# Altium schematic symbol library Custom1.SchLib: 476 symbols (part 3 of 16)
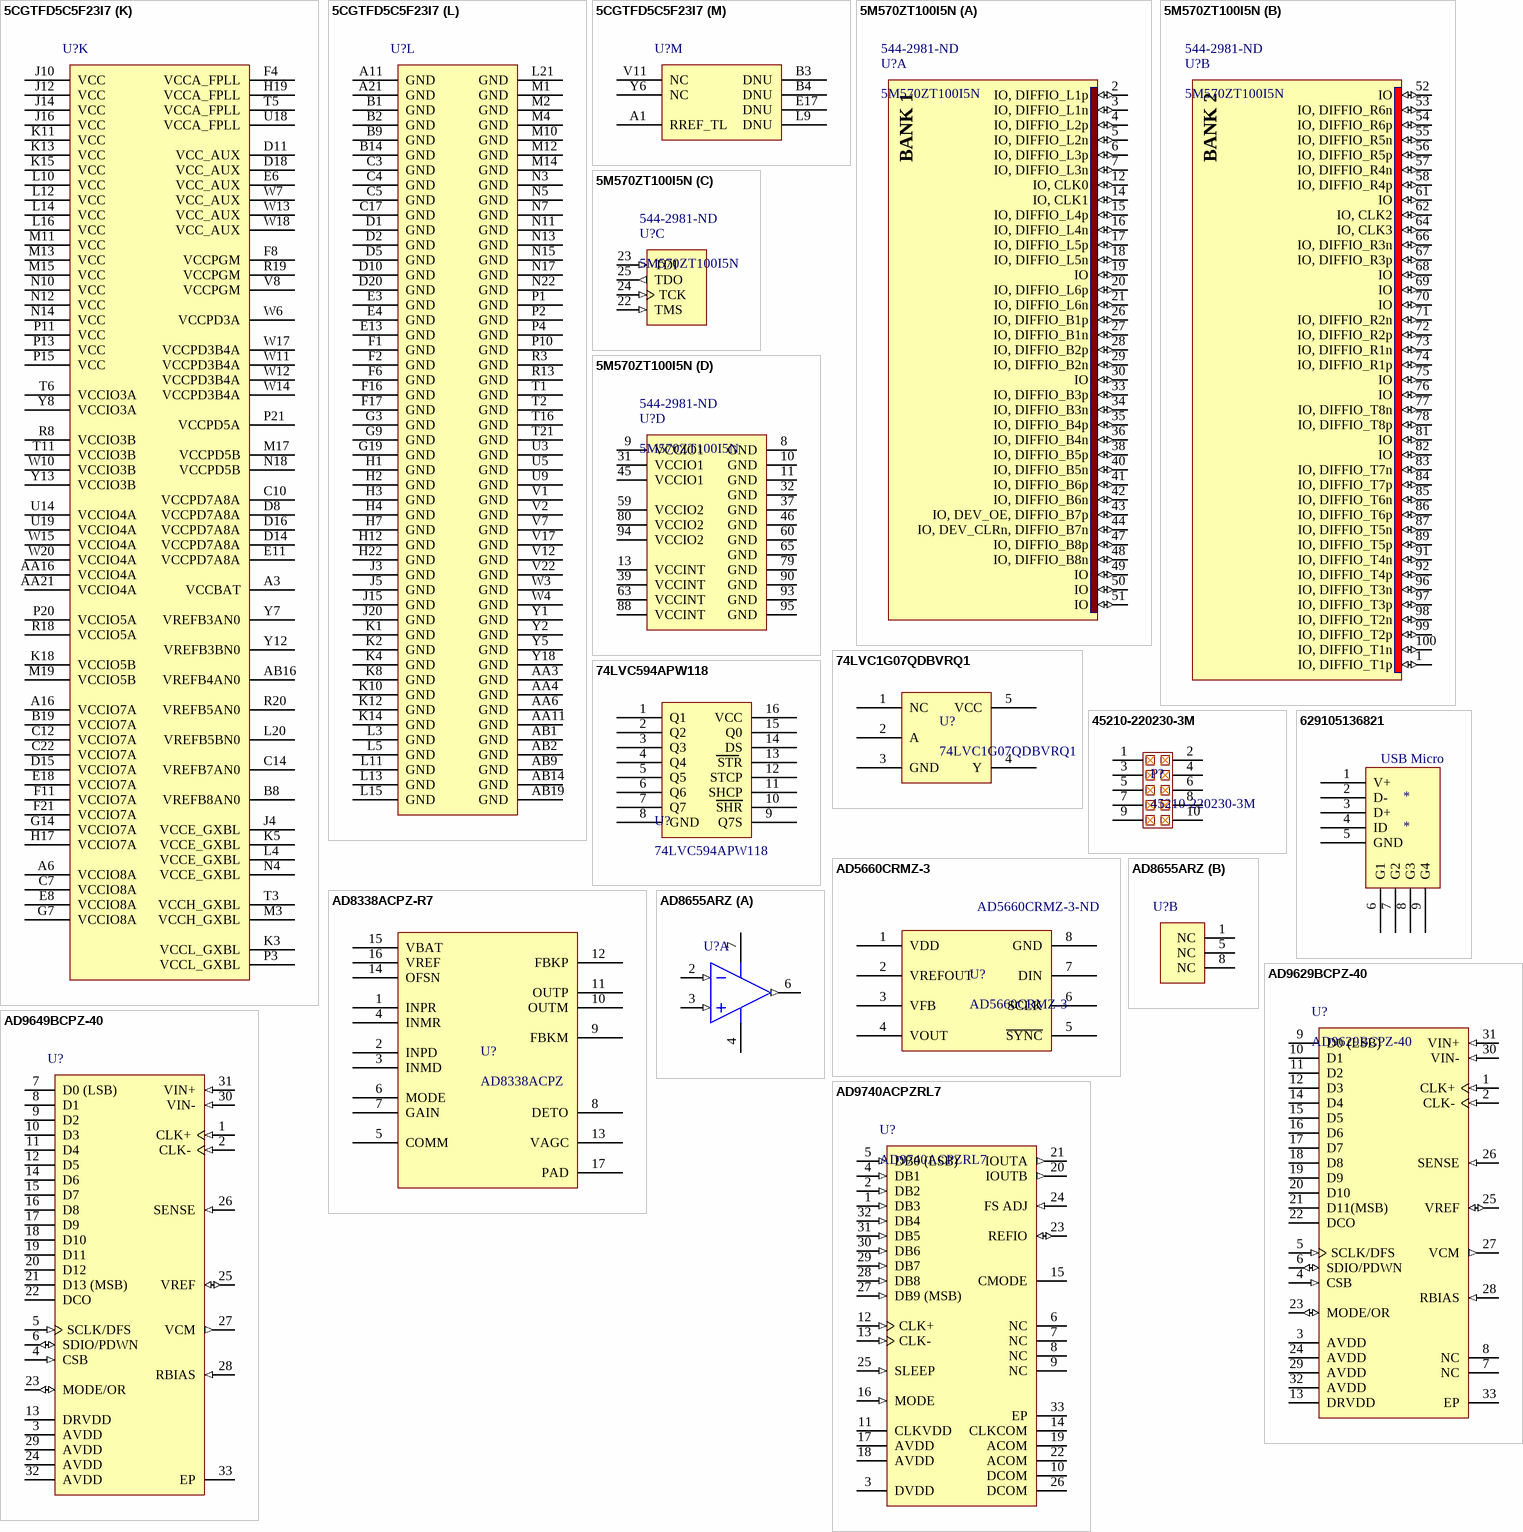
[diagram p27: symbols 5CGTFD5C5F23I7 to AD9740ACPZRL7]

## 45210-220230-3M
designator P?
shrouded header 5x2; Manufacturer: 3M; Number of Contacts: 10; Current Rating: 1A; Voltage Rating: 125V; Connector Type: Male Pin; Pitch: 1.27mm; Row Spacing: 0.05inch; Supplier 1: Digi-Key; Manufacturer Part Number: 45210-220230; Stock 1: 655; Pricing 1: 1=8.26000, 10=7.91400, 100=6.53750 (USD); RoHS: Yes; Mount: Surface Mount; Contact Plating: Gold; Contact Material: Copper Alloy; Housing Material: Liquid Crystal Polymer; Min Operating Temperature: -55°C; Max Operating Temperature: 105°C; Number of Rows: 2; Termination: Solder; Packaging: Tape and Reel; Contact Gender: Male; Package Quantity: 250; Fastening Type: Latch; Number of Positions: 10; Flammability Rating: UL94 V-0; Supplier Part Number 1: 3M15574CT-ND
footprint 45210-220230 (Shrouded header, 5x2, 452 series, through hole)
pins: 1, 2, 3, 4, 5, 6, 7, 8, 9, 10

## 629105136821
designator *  Style: USB Micro
CONN RCPT USB MICRO B R/A SMT; Manufacturer: Wurth Electronics; Manufacturer Part Number: 629105136821; Plating: Nickel; Current Rating: 1.8A; Gender: Receptacle; Voltage Rating: 30V; Number of Contacts: 5; Insulation Resistance: 1GR; Number of Ports: 1; USB Standard: USB 2.0; Supplier 1: Digi-Key; RoHS: Yes; Stock 1: 10371; Pricing 1: 1 = 1.21000, 10 = 1.19200, 50 = 1.10700, 100 = 1.02100, 500 = 0.93600 (USD); Mount: Horizontal,Surface Mount; Contact Plating: Gold; Contact Material: Copper Alloy; Color: Black; Min Operating Temperature: -40°C; Max Operating Temperature: 105°C; Package Quantity: 1400; Packaging: Tape and Reel; Connector Type: USB; Number of Positions: 5; Termination: Solder; Orientation: Right Angle; Length: 5.9mm; Lead Free: Lead Free; REACH SVHC: Unknown; Flammability Rating: UL94 V-0; ComponentLink1URL: https://katalog.we-online.de/em/datasheet/629105136821.pdf; ComponentLink1Description: https://katalog.we-online.de/em/datasheet/629105136821.pdf; ComponentLink2URL: http://katalog.we-online.de/em/datasheet/629105136821.pdf; ComponentLink2Description: http://katalog.we-online.de/em/datasheet/629105136821.pdf; Supplier Part Number 1: 732-3155-1-ND
footprint USB-B Micro Wurth 629105136821
pins: 1 V+, 2 D-, 3 D+, 4 ID, 5 GND, 6 G1, 7 G2, 8 G3, 9 G4

## AD5660CRMZ-3
designator U?  Supplier Part Number 1: AD5660CRMZ-3-ND
DAC, 16 Bit; Manufacturer: Analog Devices Inc; Settling Time: 8µs; Number of Bits: 16; Data Interface: DSP, MICROWIRE™, QSPI™, Serial, SPI™; Number of Converters: 1; Voltage Supply Source: Single Supply; Number of Outputs and Type: 1 Voltage, Unipolar; 1 Voltage, Bipolar; Supplier 1: Digi-Key; Manufacturer Part Number: AD5660CRMZ-3; RoHS: RoHS Compliant; Category: Integrated Circuits (ICs); Stock 1: 196; Pricing 1: 1=9.2, 10=8.282, 25=7.546, 100=6.8099, 250=6.25772, 500=5.70556, 1000=4.96935, 2500=4.908 (USD); Packaging: Tube; Power Dissipation (Max): -; Operating Temperature: -40°C ~ 105°C; Mounting Type: Surface Mount; Package / Case: 8-TSSOP, 8-MSOP (0.118", 3.00mm Width); Supplier Device Package: 8-MSOP; Sampling Rate (Per Second): -; ComponentLink1URL: http://www.analog.com/static/imported-files/data_sheets/AD5620_5640_5660.pdf; ComponentLink1Description: http://www.analog.com/static/imported-files/data_sheets/AD5620_5640_5660.pdf
footprint rm-8 (Shrink Small Outline, MSOP; 8 Leads; Body Width 3 mm; Pitch 0.65 mm)
footprint ru-8 (Shrink Small Outline; 8 Leads; Body Width 4.4 mm; Pitch 0.65 mm)
pins: 1 VDD, 2 VREFOUT, 3 VFB, 4 VOUT, 5 ~{SYNC}, 6 SCLK, 7 DIN, 8 GND

## AD8338ACPZ-R7
designator U?, comment AD8338ACPZ
IC OPAMP VGA 18MHZ 16LFCSP; Manufacturer: Analog Devices Inc; Manufacturer Part Number: AD8338ACPZ-R7; Amplifier Type: Variable Gain; Number of Circuits: 1; Slew Rate: 50 V/µs; Voltage - Supply, Single/Dual (±): 3 V ~ 5 V; Supplier 1: Digi-Key; RoHS: RoHS Compliant; Category: Integrated Circuits (ICs); Stock 1: 2006; Pricing 1: 1=11.79, 10=10.601, 25=9.6416, 100=8.7277, 250=7.99664, 500=7.3112 (USD); Packaging: Cut Tape (CT); Output Type: -; Gain Bandwidth Product: -; -3db Bandwidth: 18MHz; Current - Input Bias: -; Voltage - Input Offset: -; Current - Supply: -; Current - Output / Channel: -; Operating Temperature: -40°C ~ 85°C; Mounting Type: Surface Mount; Package / Case: 16-WFQFN Exposed Pad, CSP; Supplier Device Package: 16-LFCSP-WQ (3x3); ComponentLink1URL: http://www.analog.com/static/imported-files/data_sheets/AD8338.pdf; ComponentLink1Description: http://www.analog.com/static/imported-files/data_sheets/AD8338.pdf; Supplier Part Number 1: AD8338ACPZ-R7CT-ND
footprint ADI-CP-16-2_L_Mod (QFN, 16-Leads, Body 3x3mm, Pitch 0.5mm, Thermal Pad 1.3x1.3mm, IPC High Density)
pins: 1 INPR, 2 INPD, 3 INMD, 4 INMR, 5 COMM, 6 MODE, 7 GAIN, 8 DETO, 9 FBKM, 10 OUTM, 11 OUTP, 12 FBKP, 13 VAGC, 14 OFSN, 15 VBAT, 16 VREF, 17 PAD

## AD8655ARZ
designator U?
Single Channel Low Offset Voltage Operational Amplifier, 28 MHz BW, 11 V/us SR, Industrial, 8-pin SOIC (R-8), Tube; Generic Part Number: AD8655; Manufacturer: Analog Devices; PartNumber: AD8655ARZ; Amplifiers Per Package: 1; Input Bias Current: 1pA; Input Offset Voltage: 50uV; Iq/Amp: 4.5mA; Slew Rate: 11V/us; Small Signal Bandwidth: 28MHz; V Span Max: 5.5V; V Span Min: 2.7V; DatasheetVersion: Rev. B; PackageVersion: 060506-A; PackageReference: R-8; PackageDescription: 8-Pin Standard Small Outline Package, Body 3.9 x 4.9 mm, Pitch 1.27 mm; Supplier 1: Digi-Key; Supplier Part Number 1: AD8655ARZ-ND; Supplier 2: Newark; Supplier Part Number 2: 59K7052; Mounting Technology: Surface Mount; Code_JEDEC: MS-012-AA; ComponentLink1Description: Manufacturer URL; ComponentLink1URL: http://www.analog.com/en/index.html; ComponentLink2Description: Datasheet; ComponentLink2URL: http://www.analog.com/static/imported-files/data_sheets/AD8655_8656.pdf; ComponentLink3Description: Package Specification; ComponentLink3URL: http://www.analog.com/static/imported-files/packages/PKG_PDF/SOIC_Narrow%20(R)/R_8.pdf; ComponentLink4Description: URL Link1; ComponentLink4URL: Reference Circuit:http://www.analog.com/en/all-operational-amplifiers-op-amps/operational-amplifiers-op-amps/ad8655/products/product.html#product-recommendations
footprint ADI-R-8_N (SOIC, 8-Leads, Body 4.9x3.9mm, Pitch 1.27mm, IPC Medium Density)
footprint ADI-R-8_L (SOIC, 8-Leads, Body 4.9x3.9mm, Pitch 1.27mm, IPC High Density)
footprint ADI-R-8_M (SOIC, 8-Leads, Body 4.9x3.9mm, Pitch 1.27mm, IPC Low Density)
part A pins: 2 -IN (in), 3 +IN (in), 4 -V (power), 6 OUT (out), 7 +V (power)
part B pins: 1 NC, 5 NC, 8 NC

## AD9629BCPZ-40
designator U?
Single 12-Bit Analog-to-Digital Converter with Parallel Interface, 1.8 V 40MSPS, -40 to +85 degC, CP-32-4, Pb-Free, Tray; Generic Part Number: AD9629-40; Manufacturer: Analog Devices; Throughput Rate (SPS): 40M; Resolution (Bits): 12; Interface: Par; Channels: 1; ComponentLink4Description: Product URL; PartNumber: AD9629BCPZ-40; ComponentLink1Description: Manufacturer URL; ComponentLink2Description: Datasheet; DatasheetVersion: Rev.0; ComponentLink3URL: http://www.analog.com/static/imported-files/packages/3416438741201015623CP_32_4.pdf; ComponentLink1URL: http://www.analog.com/en/index.html; Code_JEDEC: MO-220-VHHD-2; Packing: Tray; ComponentLink4URL: http://www.analog.com/en/analog-to-digital-converters/ad-converters/ad9629/products/product.html; ComponentLink2URL: http://www.analog.com/static/imported-files/data_sheets/AD9629.pdf; PackageReference: CP-32-4; ComponentLink3Description: Package Specification; PackageVersion: 2005; RoHS: Y; Mounting Technology: Surface Mount; PackageDescription: 32-Lead Lead Frame Chip Scale Package [LFCSP_VQ] 5 x 5 mm Body, Very Thin Quad
footprint CP-32-4_M
footprint CP-32-4_N
footprint CP-32-4_L
pins: 1 CLK+ (in) "Differential Encode Clock. PECL, LVDS, or 1.8 V CMOS inputs", 2 CLK- (in) "Differential Encode Clock. PECL, LVDS, or 1.8 V CMOS inputs", 3 AVDD (power) "1.8 V Supply Pin for ADC Core Domain.", 4 CSB (in) "SPI Chip Select. Active low enable. 30 kohm internal pull-up", 5 SCLK/DFS (in) "SPI Clock Input in SPI Mode (SCLK). 30 kohm internal pull-down.  Data Format Select in Non-SPI Mode (DFS). Static control of data output format. 30 kohm internal pull-down DFS high = twos complement output; DFS low = offset (See Datasheet)", 6 SDIO/PDWN (io) "SPI Data Input/Output (SDIO). Bidirectional SPI data I/O in SPI mode. 30 kohm internal pull-down Non-SPI Mode Power-Down (PDWN). Static control of power-down with 30 kohm internal pull-down. See Table 14 for details.", 7 NC "Do Not Connect.", 8 NC "Do Not Connect.", 9 D0 (LSB) (hiz) "ADC Digital Outputs.", 10 D1 (hiz) "ADC Digital Outputs.", 11 D2 (hiz) "ADC Digital Outputs.", 12 D3 (hiz) "ADC Digital Outputs.", 13 DRVDD (power) "1.8 V to 3.3 V Supply Pin for Output Driver Domain", 14 D4 (hiz) "ADC Digital Outputs.", 15 D5 (hiz) "ADC Digital Outputs.", 16 D6 (hiz) "ADC Digital Outputs.", 17 D7 (hiz) "ADC Digital Outputs.", 18 D8 (hiz) "ADC Digital Outputs.", 19 D9 (hiz) "ADC Digital Outputs.", 20 D10 (hiz) "ADC Digital Outputs.", 21 D11(MSB) (hiz) "ADC Digital Outputs.", 22 DCO (hiz) "Data Clock Digital Output.", 23 MODE/OR (io) "Chip Mode Select Input or Out-of-Range (OR) Digital Output in SPI Mode.Default = out-of-range (OR) digital output (SPI Register 0x2A[0] = 1). Option  = chip mode select input (SPI Register 0x2A[0] = 0).Chip power down (SPI (See Datasheet)", 24 AVDD (power) "1.8 V Supply Pin for ADC Core Domain.", 25 VREF (io) "1.0 V Voltage Reference Input/Output. See Table 10.", 26 SENSE (in) "Reference Mode Selection. See Table 10.", 27 VCM (out) "Analog Output Voltage at Mid AVDD Supply. Sets common mode of the analog inputs", 28 RBIAS (in) "Sets Analog Current Bias. Connect to 10 kohm (1% tolerance) resistor to ground.", 29 AVDD (power) "1.8 V Supply Pin for ADC Core Domain.", 30 VIN- (in) "ADC Analog Inputs.", 31 VIN+ (in) "ADC Analog Inputs.", 32 AVDD (power) "1.8 V Supply Pin for ADC Core Domain.", 33 EP (power) "Exposed Paddle. The exposed paddle is the only ground connection. It must be soldered to the analog  ground of the customer’s PCB to ensure proper functionality and maximize heat dissipation, noise, and mechanical strength (See Datasheet)"

## AD9649BCPZ-40
designator U?
Single 14-Bit Analog-to-Digital Converter with Parallel Interface, 1.8 V 40MSPS, -40 to +85 degC, CP-32-4, Pb-Free, Tray; Manufacturer: Analog Devices Inc.; Manufacturer Part Number: AD9649BCPZ-40; Number of Bits: 14; Sampling Rate (Per Second): 40M; Number of Inputs: 1; Input Type: Differential, Single Ended; Configuration: S/H-ADC; Ratio - S/H:ADC: 1:1; Architecture: Pipelined; Reference Type: External, Internal; Voltage - Supply, Analog: 1.7 V ~ 1.9 V; Supplier 1: Digi-Key; RoHS: RoHS Compliant; Category: Integrated Circuits (ICs); Stock 1: 187; Pricing 1: 1=29.15, 10=26.883, 100=22.9562, 500=20.8418, 1000=19.63358, 2500=19.02946, 5000=18.588 (USD); Packaging: Tray; Data Interface: Parallel; Number of A/D Converters: 1; Voltage - Supply, Digital: 1.7 V ~ 1.9 V; Features: -; Operating Temperature: -40°C ~ 85°C; Package / Case: 32-VFQFN Exposed Pad, CSP; Supplier Device Package: 32-LFCSP-VQ (5x5); ComponentLink1URL: http://www.analog.com/media/en/technical-documentation/data-sheets/AD9649.pdf; ComponentLink1Description: http://www.analog.com/media/en/technical-documentation/data-sheets/AD9649.pdf; Supplier Part Number 1: AD9649BCPZ-40-ND
footprint CP-32-4_L (QFN, 32-Leads, Body 5x5mm, Pitch 0.5mm, Thermal Pad 3.5x3.5mm, IPC High Density)
footprint CP-32-4_M (QFN, 32-Leads, Body 5x5mm, Pitch 0.5mm, Thermal Pad 3.5x3.5mm, IPC Low Density)
footprint CP-32-4_N (QFN, 32-Leads, Body 5x5mm, Pitch 0.5mm, Thermal Pad 3.5x3.5mm, IPC Medium Density)
pins: 1 CLK+ (in) "Differential Encode Clock for PECL, LVDS, or 1.8 V CMOS Inputs.", 2 CLK- (in) "Differential Encode Clock for PECL, LVDS, or 1.8 V CMOS Inputs.", 3 AVDD (power) "1.8 V Supply Pin for the ADC CORE Domain.", 4 CSB (in) "SPI Chip Select. Active low enable, 30 kohm internal pull-up.", 5 SCLK/DFS (in) "SPI Clock Input in SPI Mode (SCLK). 30 kohm internal pull-down. Data Format Select in Non-SPI Mode (DFS). Static control of data output format. 30 kohm internal pull-down. DFS high = twos complement output; DFS low = offset (See Datasheet)", 6 SDIO/PDWN (io) "SPI Data Input/Output (SDIO). Bidirectional SPI data I/O with 30 kohm internal pull-down. Non-SPI Mode Power-Down (PDWN). Static control of chip power-down with 30 kohm internal pull-down. See Table 14 for details.", 7 D0 (LSB) (hiz) "ADC Digital Outputs.", 8 D1 (hiz) "ADC Digital Outputs.", 9 D2 (hiz) "ADC Digital Outputs.", 10 D3 (hiz) "ADC Digital Outputs.", 11 D4 (hiz) "ADC Digital Outputs.", 12 D5 (hiz) "ADC Digital Outputs.", 13 DRVDD (power) "1.8 V to 3.3 V Supply Pin for Output Driver Domain.", 14 D6 (hiz) "ADC Digital Outputs.", 15 D7 (hiz) "ADC Digital Outputs.", 16 D8 (hiz) "ADC Digital Outputs.", 17 D9 (hiz) "ADC Digital Outputs.", 18 D10 (hiz) "ADC Digital Outputs.", 19 D11 (hiz) "ADC Digital Outputs.", 20 D12 (hiz) "ADC Digital Outputs.", 21 D13 (MSB) (hiz) "ADC Digital Outputs.", 22 DCO (hiz) "Data Clock Digital Output.", 23 MODE/OR (io) "Chip Mode Select Input in SPI Mode (MODE). Out-of-Range Digital Output in SPI Mode or in Non-SPI Mode (OR). Default = out-of-range (OR) digital output (SPI Register 0x2A, Bit 0 = 1). Option = chip mode select input (SPI (See Datasheet)", 24 AVDD (power) "1.8 V Supply Pin for the ADC CORE Domain.", 25 VREF (io) "1.0 V Voltage Reference Input/Output. See Table 10.", 26 SENSE (in) "Reference Mode Selection. See Table 10.", 27 VCM (out) "Analog Output Voltage at Mid AVDD Supply. Sets common mode of the analog inputs.", 28 RBIAS (in) "Set Analog Current Bias. Connect to 10 kohm (1% tolerance) resistor to ground.", 29 AVDD (power) "1.8 V Supply Pin for the ADC CORE Domain.", 30 VIN- (in) "ADC Analog Inputs.", 31 VIN+ (in) "ADC Analog Inputs.", 32 AVDD (power) "1.8 V Supply Pin for the ADC CORE Domain.", 33 EP (power) "Exposed Paddle. The exposed paddle is the only ground connection. It must be soldered to the analog ground of the customer’s PCB to ensure proper functionality and maximize the heat dissipation, noise, and mechanical (See Datasheet)"

## AD9740ACPZRL7
designator U?
Single 10-Bit TxDAC, 210 Msps, -40 to +85 degC, CP-32-2, Pb-Free, Reel; ADI Part Number: AD9740; Single Supply: Yes; Op Pwr Diss: 145mW; Settling Time: 11ns; Max V+: 3.6V; Resolution (Bits): 10; # DAC Outputs: 1; ComponentLink4Description: URL Link1; ComponentLink1Description: Manufacturer URL; ComponentLink2Description: Datasheet; DatasheetVersion: Rev.B; ComponentLink3URL: http://www.analog.com/static/imported-files/packages/414143737956480539664569CP_32_2.pdf; ComponentLink1URL: http://www.analog.com/en/index.html; Code_JEDEC: MO-220-VHHD-2; Packing: Reel; ComponentLink4URL: Product URL:http://www.analog.com/en/digital-to-analog-converters/da-converters/ad9740/products/product.html; ComponentLink2URL: http://www.analog.com/static/imported-files/data_sheets/AD9740.pdf; PackageReference: CP-32-2; ComponentLink3Description: Package Specification; PackageVersion: Jan-2005; RoHS: Y; Mounting Technology: Surface Mount; PackageDescription: 32-Lead Lead Frame Chip Scale Package [LFCSP_VQ] 5 x 5 mm Body, Very Thin Quad; PartNumber: AD9740ACPZRL7
footprint CP-32-2_L
footprint CP-32-2_M
footprint CP-32-2_N
pins: 1 DB3 (in) "Data Bit 3", 2 DB2 (in) "Data Bit 2", 3 DVDD (power) "Digital Supply Voltage (3.3 V).", 4 DB1 (in) "Data Bit 1", 5 DB0 (LSB) (in) "Least Significant Data Bit (LSB).", 6 NC "No Internal Connection.", 7 NC "No Internal Connection.", 8 NC "No Internal Connection.", 9 NC "No Internal Connection.", 10 DCOM (power) "Digital Common.", 11 CLKVDD (power) "Clock Supply Voltage (3.3 V).", 12 CLK+ (in) "Differential Clock Input.", 13 CLK- (in) "Differential Clock Input.", 14 CLKCOM (power) "Clock Common.", 15 CMODE "Clock Mode Selection. Connect to CLKCOM for single-ended clock receiver (drive CLK+and float CLK-). Connect to CLKVDD for differential receiver. Float for PECL receiver (terminations on-chip).", 16 MODE (in) "Selects Input Data Format. Connect to DCOM for straight binary, DVDD for twos complement.", 17 AVDD (power) "Analog Supply Voltage (3.3 V).", 18 AVDD (power) "Analog Supply Voltage (3.3 V).", 19 ACOM (power) "Analog Common.", 20 IOUTB (out) "Complementary DAC Current Output. Full-scale current when all data bits are 0s.", 21 IOUTA (out) "DAC Current Output. Full-scale current when all data bits are 1s.", 22 ACOM (power) "Analog Common.", 23 REFIO (io) "Reference Input/Output. Serves as reference input when using external reference.Serves as 1.2 V reference output when using internal reference. Requires 0.1 uF capacitor to ACOM when using internal reference.", 24 FS ADJ (in) "Full-Scale Current Output Adjust.", 25 SLEEP (in) "Power-Down Control Input. Active high. Contains active pull-down circuit; it can be left unterminated if not used.", 26 DCOM (power) "Digital Common.", 27 DB9 (MSB) (in) "Most Significant Data Bit (MSB).", 28 DB8 (in) "Data Bit 8", 29 DB7 (in) "Data Bit 7", 30 DB6 (in) "Data Bit 6", 31 DB5 (in) "Data Bit 5", 32 DB4 (in) "Data Bit 4", 33 EP "Exposed pad."

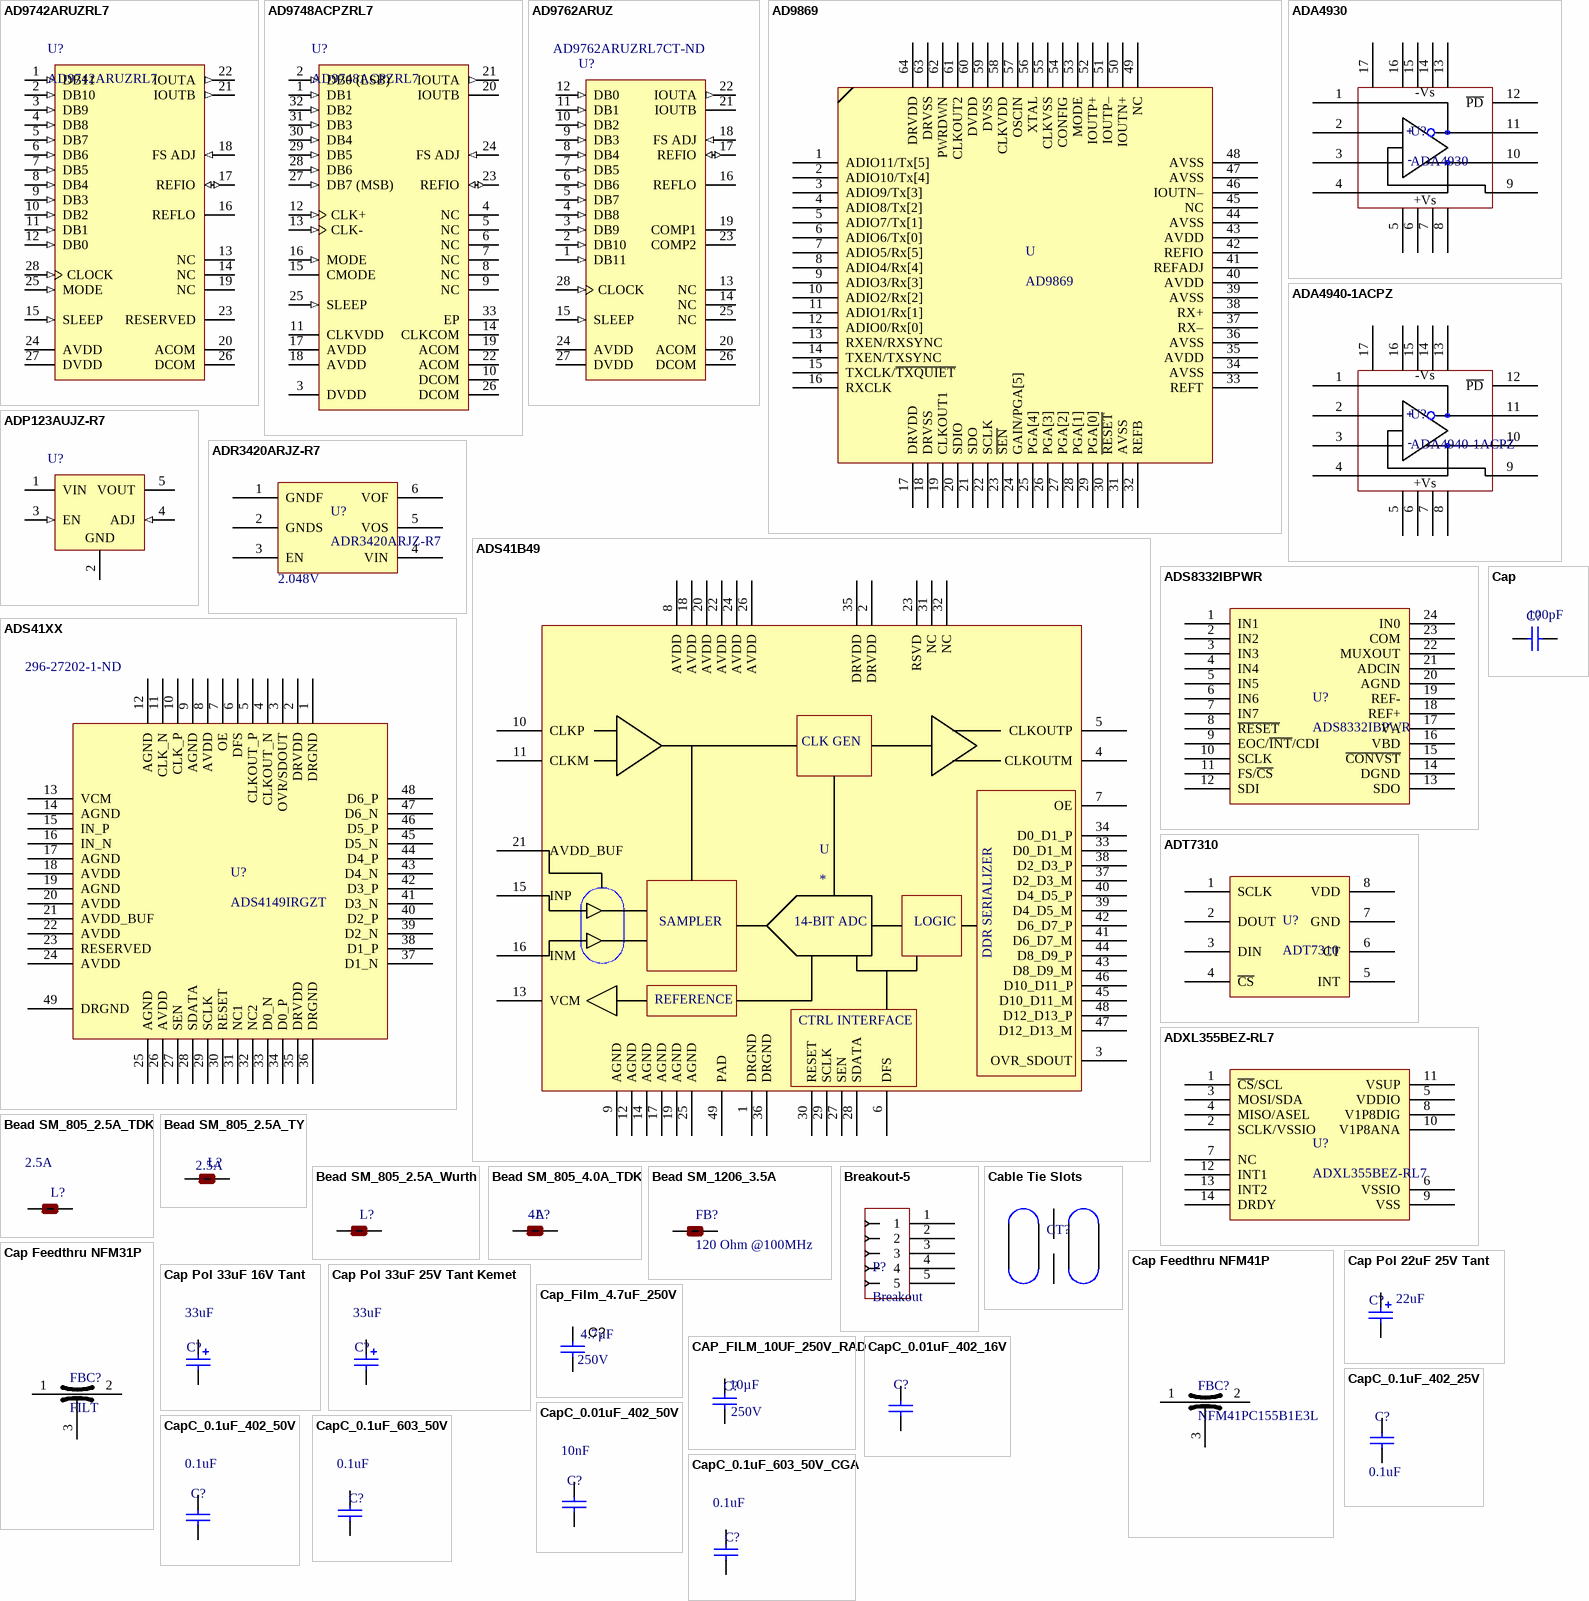
[diagram p10: symbols AD9742ARUZRL7 to CapC_0.1uF_603_50V_CGA]

## AD9742ARUZRL7
designator U?
Single 12-Bit TxDAC, 210 Msps, -40 to +85 degC, RU-28, Pb-Free, Reel; Generic Part Number: AD9742; Manufacturer: Analog Devices; Single Supply: NO; Op Pwr Diss: 145mW; Settling Time: 11ns; Max V+: 3.6V; Resolution (Bits): 12; # DAC Outputs: 1; ComponentLink4Description: Product URL; PartNumber: AD9742ARUZRL7; ComponentLink1Description: Manufacturer URL; ComponentLink2Description: Datasheet; DatasheetVersion: Rev.B; ComponentLink3URL: http://www.analog.com/static/imported-files/packages/249854663RU_28.pdf; ComponentLink1URL: http://www.analog.com/en/index.html; Code_JEDEC: MO-153-AE; Packing: Reel; RevisionNote: Component URL fixed; ComponentLink4URL: http://www.analog.com/en/digital-to-analog-converters/da-converters/ad9742/products/product.html; ComponentLink2URL: http://www.analog.com/static/imported-files/data_sheets/AD9742.pdf; ComponentLink3Description: Package Specification; PackageVersion: 2005; RoHS: Y; Mounting Technology: Surface Mount; PackageReference: RU-28; PackageDescription: 28-Lead Thin Shrink Small Outline Package [TSSOP]
footprint RU-28_M
footprint RU-28_L
footprint RU-28_N
pins: 1 DB11 (in) "Most Significant Data Bit (MSB).", 2 DB10 (in) "Data Bit 10", 3 DB9 (in) "Data Bit 9", 4 DB8 (in) "Data Bit 8", 5 DB7 (in) "Data Bit 7", 6 DB6 (in) "Data Bit 6", 7 DB5 (in) "Data Bit 5", 8 DB4 (in) "Data Bit 4", 9 DB3 (in) "Data Bit 3", 10 DB2 (in) "Data Bit 2", 11 DB1 (in) "Data Bit 1", 12 DB0 (in) "Least Significant Data Bit (LSB).", 13 NC "No Internal Connection.", 14 NC "No Internal Connection.", 15 SLEEP (in) "Power-Down Control Input. Active high. Contains active pull-down circuit; it may be left unterminated if not used.", 16 REFLO "Reference Ground when Internal 1.2 V Reference Used. Connect to AVDD to disable internal reference.", 17 REFIO (io) "Reference Input/Output. Serves as reference input when internal reference disabled (i.e., tie REFLO to AVDD). Serves as 1.2 V reference output when internal reference activated (i.e., tie REFLO to ACOM). Requires 0.1 uF (See Datasheet)", 18 FS ADJ (in) "Full-Scale Current Output Adjust.", 19 NC "No Internal Connection.", 20 ACOM (power) "Analog Common.", 21 IOUTB (out) "Complementary DAC Current Output. Full-scale current when all data bits are 0s.", 22 IOUTA (out) "DAC Current Output. Full-scale current when all data bits are 1s.", 23 RESERVED "Reserved. Do not connect to common or supply.", 24 AVDD (power) "Analog Supply Voltage (3.3 V).", 25 MODE (in) "Selects Input Data Format. Connect to DCOM for straight binary, DVDD for twos complement.", 26 DCOM (power) "Digital Common.", 27 DVDD (power) "Digital Supply Voltage (3.3 V).", 28 CLOCK (in) "Clock Input. Data latched on positive edge of clock."

## AD9748ACPZRL7
designator U?
Single 8-Bit TxDAC, 210 Msps, -40 to +85 degC, CP-32-2, Pb-Free, Reel; Manufacturer: Analog Devices; Generic Part Number: AD9748; Single Supply: Yes; Op Pwr Diss: 145mW; Settling Time: 11ns; Max V+: 3.6V; Resolution (Bits): 8; # DAC Outputs: 1; ComponentLink4Description: Product URL; PartNumber: AD9748ACPZRL7; PackageVersion: Jan-2005; ComponentLink1Description: Manufacturer URL; ComponentLink2Description: Datasheet; DatasheetVersion: Rev.A; ComponentLink3URL: http://www.analog.com/static/imported-files/packages/414143737956480539664569CP_32_2.pdf; ComponentLink1URL: http://www.analog.com/en/index.html; Code_JEDEC: MO-220-VHHD-2; Packing: Reel; RevisionNote: Component URL fixed; ComponentLink4URL: http://www.analog.com/en/digital-to-analog-converters/da-converters/ad9748/products/product.html; ComponentLink2URL: http://www.analog.com/static/imported-files/data_sheets/AD9748.pdf; ComponentLink3Description: Package Specification; RoHS: Y; Mounting Technology: Surface Mount; PackageReference: CP-32-2; PackageDescription: 32-Lead Lead Frame Chip Scale Package [LFCSP_VQ] 5 x 5 mm Body, Very Thin Quad
footprint CP-32-2_L
footprint CP-32-2_M
footprint CP-32-2_N
pins: 1 DB1 (in) "Data Bit 1.", 2 DB0 (LSB) (in) "Least Significant Data Bit (LSB).", 3 DVDD (power) "Digital Supply Voltage (3.3 V).", 4 NC "No Internal Connection.", 5 NC "No Internal Connection.", 6 NC "No Internal Connection.", 7 NC "No Internal Connection.", 8 NC "No Internal Connection.", 9 NC "No Internal Connection.", 10 DCOM (power) "Digital Common.", 11 CLKVDD (power) "Clock Supply Voltage (3.3 V).", 12 CLK+ (in) "Differential Clock Input.", 13 CLK- (in) "Differential Clock Input.", 14 CLKCOM (power) "Clock Common.", 15 CMODE "Clock Mode Selection. Connect to CLKCOM for single-ended clock receiver (drive CLK+ and float CLK-). Connect to CLKVDD for differential receiver. Float for PECL receiver (terminations on-chip).", 16 MODE (in) "Selects Input Data Format. Connect to DCOM for straight binary, DVDD for twos complement.", 17 AVDD (power) "Analog Supply Voltage (3.3 V).", 18 AVDD (power) "Analog Supply Voltage (3.3 V).", 19 ACOM (power) "Analog Common.", 20 IOUTB "Complementary DAC Current Output. Full-scale current when all data bits are 0s.", 21 IOUTA (out) "DAC Current Output. Full-scale current when all data bits are 1s.", 22 ACOM (power) "Analog Common.", 23 REFIO (io) "Reference Input/Output. Requires 0.1 uF capacitor to ACOM.", 24 FS ADJ (in) "Full-Scale Current Output Adjust.", 25 SLEEP (in) "Power-Down Control Input. Active high. Contains active pull-down circuit; it can be left unterminated if not used.", 26 DCOM (power) "Digital Common.", 27 DB7 (MSB) (in) "Most Significant Data Bit (MSB).", 28 DB6 (in) "Data Bit 2.", 29 DB5 (in) "Data Bit 3.", 30 DB4 (in) "Data Bit 4.", 31 DB3 (in) "Data Bit 5.", 32 DB2 (in) "Data Bit 6.", 33 EP "Exposed Pad."

## AD9762ARUZ
designator U?  Supplier Part Number 1: AD9762ARUZRL7CT-ND
Single 12-Bit TxDAC, 125 Msps, -40 to +85 degC, RU-28, Pb-Free, Tube; ADI Part Number: AD9762; Manufacturer: Analog Devices; Manufacturer Part Number: AD9762ARUZRL7; # DAC Outputs: 1; Max V+: 5.5V; Op Pwr Diss: 160mW; Resolution (Bits): 12; Settling Time: 35ns; Single Supply: Yes; Data Interface: Parallel; Voltage Supply Source: Analog and Digital; Number of Outputs and Type: 2 Current; Sampling Rate (Per Second): 125M; DatasheetVersion: Rev.B; PackageVersion: 2005; PackageReference: RU-28; PackageDescription: 28-Lead Thin Shrink Small Outline Package [TSSOP]; Packing: Tube; RoHS: Y; Mounting Technology: Surface Mount; Code_JEDEC: MO-153-AE; ComponentLink1Description: Manufacturer URL; ComponentLink1URL: http://www.analog.com/en/index.html; ComponentLink2Description: Datasheet; ComponentLink2URL: http://www.analog.com/static/imported-files/data_sheets/AD9762.pdf; ComponentLink3Description: Package Specification; ComponentLink3URL: http://www.analog.com/static/imported-files/packages/249854663RU_28.pdf; ComponentLink4Description: URL Link1; ComponentLink4URL: Product URL:http://www.analog.com/en/digital-to-analog-converters/da-converters/ad9762/products/product.html; Supplier 1: Digi-Key; Category: Integrated Circuits (ICs); Stock 1: 0; Pricing 1: 1=0 (USD); Packaging: Cut Tape (CT); Number of Bits: 12; Number of Converters: 1; Operating Temperature: *; Mounting Type: Surface Mount; Package / Case: 28-TSSOP (0.173", 4.40mm Width); Supplier Device Package: 28-TSSOP
footprint RU-28_L (TSOP, 28-Leads, Body 9.7x4.4mm, Pitch 0.65mm, IPC High Density)
footprint RU-28_M (TSOP, 28-Leads, Body 9.7x4.4mm, Pitch 0.65mm, IPC Low Density)
footprint RU-28_N (TSOP, 28-Leads, Body 9.7x4.4mm, Pitch 0.65mm, IPC Medium Density)
pins: 1 DB11 (in) "Most Significant Data Bit (MSB).", 2 DB10 (in) "Data Bit 10", 3 DB9 (in) "Data Bit 9", 4 DB8 (in) "Data Bit 8", 5 DB7 (in) "Data Bit 7", 6 DB6 (in) "Data Bit 6", 7 DB5 (in) "Data Bit 5", 8 DB4 (in) "Data Bit 4", 9 DB3 (in) "Data Bit 3", 10 DB2 (in) "Data Bit 2", 11 DB1 (in) "Data Bit 1", 12 DB0 (in) "Least Significant Data Bit (LSB).", 13 NC "No Internal Connection.", 14 NC "No Internal Connection.", 15 SLEEP (in) "Power-down Control Input. Active High. Contains active pull-down circuit, thus may be left unterminated if not used.", 16 REFLO "Reference Ground when Internal 1.2 V Reference Used. Connect to AVDD to disable internal reference.", 17 REFIO (io) "Reference Input/Output. Serves as reference input when internal reference disabled (i.e., Tie REFLO to AVDD). Serves as 1.2 V reference output when internal reference activated (i.e., Tie REFLO to ACOM). Requires 0.1 uF (See Datasheet)", 18 FS ADJ (in) "Full-Scale Current Output Adjust.", 19 COMP1 "Bandwidth/Noise Reduction Node. Add 0.1 uF to AVDD for optimum performance.", 20 ACOM (power) "Analog Common.", 21 IOUTB "Complementary DAC Current Output. Full-scale current when all data bits are 0s.", 22 IOUTA (out) "DAC Current Output. Full-scale current when all data bits are 1s.", 23 COMP2 "Internal Bias Node for Switch Driver Circuitry. Decouple to ACOM with 0.1 uF capacitor.", 24 AVDD (power) "Analog Supply Voltage (+2.7 V to +5.5 V).", 25 NC "No Internal Connection.", 26 DCOM (power) "Digital Common.", 27 DVDD (power) "Digital Supply Voltage (+2.7 V to +5.5 V).", 28 CLOCK (in) "Clock Input. Data latched on positive edge of clock."

## AD9869
designator U
IC MXFE ADC 80MSPS TX/RX; Manufacturer: Analog Devices Inc; Manufacturer Part Number: AD9869BCPZ; RF Type: HPNA, VDSL; Supplier 1: Digi-Key; RoHS: RoHS Compliant; Category: RF/IF and RFID; Stock 1: 0; Pricing 1: 1=0 (USD); Packaging: Tray; Frequency: -; Features: -; Package / Case: 64-VFQFN Exposed Pad, CSP; Supplier Device Package: 64-LFCSP-VQ (9x9); ComponentLink1URL: http://www.analog.com/media/en/technical-documentation/data-sheets/AD9869.pdf; ComponentLink1Description: http://www.analog.com/media/en/technical-documentation/data-sheets/AD9869.pdf; Supplier Part Number 1: AD9869BCPZ-ND
pins: 1 ADIO11/Tx[5], 2 ADIO10/Tx[4], 3 ADIO9/Tx[3], 4 ADIO8/Tx[2], 5 ADIO7/Tx[1], 6 ADIO6/Tx[0], 7 ADIO5/Rx[5], 8 ADIO4/Rx[4], 9 ADIO3/Rx[3], 10 ADIO2/Rx[2], 11 ADIO1/Rx[1], 12 ADIO0/Rx[0], 13 RXEN/RXSYNC, 14 TXEN/TXSYNC, 15 TXCLK/~{TXQUIET}, 16 RXCLK, 17 DRVDD, 18 DRVSS, 19 CLKOUT1, 20 SDIO, 21 SDO, 22 SCLK, 23 ~{SEN}, 24 GAIN/PGA[5], 25 PGA[4], 26 PGA[3], 27 PGA[2], 28 PGA[1], 29 PGA[0], 30 ~{RESET}, 31 AVSS, 32 REFB, 33 REFT, 34 AVSS, 35 AVDD, 36 AVSS, 37 RX–, 38 RX+, 39 AVSS, 40 AVDD, 41 REFADJ, 42 REFIO, 43 AVDD, 44 AVSS, 45 NC, 46 IOUTN–, 47 AVSS, 48 AVSS, 49 NC, 50 IOUTN+, 51 IOUTP–, 52 IOUTP+, 53 MODE, 54 CONFIG, 55 CLKVSS, 56 XTAL, 57 OSCIN, 58 CLKVDD, 59 DVSS, 60 DVDD, 61 CLKOUT2, 62 PWRDWN, 63 DRVSS, 64 DRVDD

## ADA4930
designator U?
Manufacturer: Analog Devices Inc; Manufacturer Part Number: ADA4930-1YCPZ-R7; Amplifier Type: Differential; Number of Circuits: 1; Slew Rate: 3400 V/µs; -3db Bandwidth: 1.35GHz; Current - Input Bias: 23µA; Voltage - Input Offset: 150µV; Current - Supply: 34mA; Current - Output / Channel: 30mA; Voltage - Supply, Single/Dual (±): 3.3V, 5V; Supplier 1: Digi-Key; Supplier Part Number 1: ADA4930-1YCPZ-R7CT-ND; RoHS: RoHS Compliant; Category: Integrated Circuits (ICs); Stock: 358; Pricing: 1=8.95, 10=8.045, 25=7.3172, 100=6.6236, 250=6.06872, 500=5.54856 (USD); Packaging: Cut Tape (CT); Output Type: Differential; Gain Bandwidth Product: -; Operating Temperature: -40°C ~ 105°C; Mounting Type: Surface Mount; Package / Case: 16-VFQFN Exposed Pad, CSP; Supplier Device Package: 16-LFCSP-VQ (3x3); ComponentLink1URL: http://www.analog.com/static/imported-files/data_sheets/ADA4930-1_4930-2.pdf; ComponentLink1Description: http://www.analog.com/static/imported-files/data_sheets/ADA4930-1_4930-2.pdf
footprint ADI-CP-16-2_L (QFN, 16-Leads, Body 3x3mm, Pitch 0.5mm, Thermal Pad 1.3x1.3mm, IPC High Density)
footprint ADI-CP-16-2_L_Mod (QFN, 16-Leads, Body 3x3mm, Pitch 0.5mm, Thermal Pad 1.3x1.3mm, IPC High Density)
pins: 1, 2, 3, 4, 5, 6, 7, 8, 9 Vocm, 10, 11, 12 ~{PD}, 13, 14, 15, 16, 17
text: -Vs; +; +Vs

## ADA4940-1ACPZ
designator U?
OP AMP 260MHz; Manufacturer: Analog Devices Inc; Manufacturer Part Number: ADA4940-1ACPZ-R7; Amplifier Type: Differential; Number of Circuits: 1; Slew Rate: 95 V/µs; Current - Input Bias: 1.1µA; Voltage - Input Offset: 60µV; Current - Supply: 1.25mA; Current - Output / Channel: 46mA; Voltage - Supply, Single/Dual (±): 3 V ~ 7 V; Supplier 1: Digi-Key; RoHS: RoHS Compliant; Category: Integrated Circuits (ICs); Stock 1: 3192; Pricing 1: 1=4.54, 10=4.069, 25=3.6588, 100=3.3275, 250=3.01208, 500=2.69668 (USD); Packaging: Cut Tape (CT); Output Type: Differential; Gain Bandwidth Product: -; -3db Bandwidth: 260MHz; Operating Temperature: -40°C ~ 125°C; Mounting Type: Surface Mount; Package / Case: 16-VFQFN Exposed Pad, CSP; Supplier Device Package: 16-LFCSP-VQ (3x3); ComponentLink1URL: http://www.analog.com/static/imported-files/data_sheets/ADA4940-1_4940-2.pdf; ComponentLink1Description: http://www.analog.com/static/imported-files/data_sheets/ADA4940-1_4940-2.pdf; Supplier Part Number 1: ADA4940-1ACPZ-R7CT-ND
footprint ADI-CP-16-2_L (QFN, 16-Leads, Body 3x3mm, Pitch 0.5mm, Thermal Pad 1.3x1.3mm, IPC High Density)
footprint ADI-CP-16-2_L_Mod (QFN, 16-Leads, Body 3x3mm, Pitch 0.5mm, Thermal Pad 1.3x1.3mm, IPC High Density)
pins: 1, 2, 3, 4, 5, 6, 7, 8, 9 Vocm, 10, 11, 12 ~{PD}, 13, 14, 15, 16, 17
text: -Vs; +; +Vs

## ADP123AUJZ-R7
designator U?
300 mA, Low Quiescent Current, CMOS Linear Regulator, 2.3 to 5.5 V Vin, 0.8 to 5 V Vout, Industrial, 5-pin SOT23 (UJ-5), Reel; Manufacturer: Analog Devices; PartNumber: ADP123AUJZ-R7; Iout max: 300mA; Supply Current IGND @ Small Load: 45uA; Vin (max) (V): 5.5; Vin (min) (V): 2.3; Vout Adjustable Range: 0.8V to 5V; DatasheetVersion: Rev. E; PackageVersion: 100708-A, 10/2008; PackageReference: UJ-5; PackageDescription: 5-Pin Thin Small Outline Transistor Package, Body 2.9 x 1.6 mm, Pitch 0.95 mm; Supplier 1: Digi-Key; Supplier Part Number 1: ADP123AUJZ-R7TR-ND; Supplier 2: Digi-Key; Supplier Part Number 2: ADP123AUJZ-R7CT-ND; Supplier 3: Digi-Key; Supplier Part Number 3: ADP123AUJZ-R7DKR-ND; Supplier 4: Farnell; Supplier Part Number 4: 2296039; Supplier 5: Newark; Supplier Part Number 5: 12T2968; Supplier 6: Newark; Supplier Part Number 6: 52R8082; Supplier 7: Mouser; Supplier Part Number 7: 584-ADP123AUJZ-R7; Packing: Reel; Mounting Technology: Surface Mount; Code_JEDEC: MO-193-AB; ComponentLink1Description: Manufacturer URL; ComponentLink1URL: http://www.analog.com/en/index.html; ComponentLink2Description: Datasheet; ComponentLink2URL: http://www.analog.com/static/imported-files/data_sheets/ADP122_123.pdf; ComponentLink3Description: Package Specification; ComponentLink3URL: http:/www.analog.com/static/imported-files/packages/PKG_PDF/TSOT(UJ)/UJ_5.pdf; ComponentLink4Description: URL Link1; ComponentLink4URL: Product URL:http://www.analog.com/en/ADP123/productSearch.html
footprint ADI-UJ-5_N (SOT23, 5-Leads, Body 2.9x1.6mm, Pitch 0.95mm, IPC Medium Density)
footprint ADI-UJ-5_L (SOT23, 5-Leads, Body 2.9x1.6mm, Pitch 0.95mm, IPC High Density)
footprint ADI-UJ-5_M (SOT23, 5-Leads, Body 2.9x1.6mm, Pitch 0.95mm, IPC Low Density)
pins: 1 VIN (power) "Regulator Input Supply. Bypass VIN to GND with a capacitor of at least 1 uF.", 2 GND (power) "Ground.", 3 EN (in) "Enable Input. Drive EN high to turn on the regulator; drive EN low to turn off the regulator. For automatic startup, connect EN to VIN.", 4 ADJ (in) "Output Voltage Adjust Pin. Connect the midpoint of the voltage divider between VOUT and GND to this pin to set the output voltage.", 5 VOUT (power) "Regulated Output Voltage. Bypass VOUT to GND with a capacitor of at least 1 uF."

## ADR3420ARJZ-R7
designator U?  Voltage - Output (Min/Fixed): 2.048V
IC VREF SERIES 2.048V SOT23-6; Manufacturer: Analog Devices Inc; Output Type: Fixed; Current - Output: 10mA; Tolerance: ±0.1%; Temperature Coefficient: 8ppm/°C; Noise - 0.1Hz to 10Hz: 15µVp-p; Noise - 10Hz to 10kHz: 38µVrms; Voltage - Input: 2.3 V ~ 5.5 V; Current - Supply: 100µA; Supplier 1: Digi-Key; Manufacturer Part Number: ADR3420ARJZ-R7; RoHS: RoHS Compliant; Category: Integrated Circuits (ICs); Stock 1: 4668; Pricing 1: 1=2.82, 10=2.544, 25=2.2796, 100=2.0497, 250=1.82, 500=1.5903, 1000=1.31642 (USD); Packaging: Cut Tape (CT); Reference Type: Series; Voltage - Output (Max): -; Current - Cathode: -; Operating Temperature: -40°C ~ 125°C (TA); Mounting Type: Surface Mount; Package / Case: SOT-23-6; Supplier Device Package: SOT-23-6; ComponentLink1URL: http://www.analog.com/media/en/technical-documentation/data-sheets/ADR3412_ADR3420_ADR3425_ADR3430_ADR3433_ADR3440_ADR3450.pdf; ComponentLink1Description: http://www.analog.com/media/en/technical-documentation/data-sheets/ADR3412_ADR3420_ADR3425_ADR3430_ADR3433_ADR3440_ADR3450.pdf; Supplier Part Number 1: ADR3420ARJZ-R7CT-ND
footprint SOT-6 TI-DDC (SOT-23, 6-Leads, Body 2.90x1.60mm, Pitch 0.95mm)
pins: 1 GNDF, 2 GNDS, 3 EN, 4 VIN, 5 VOS, 6 VOF

## ADS41B49
designator U
Manufacturer: TI; Value: ADC, 250Msps, 14bit; Package / Case: 48-VFQFN Exposed Pad; Supplier: Digi-Key; Supplier P/N: 296-28094-6-ND
footprint QFN50P700X700X100_HS-49N (QFN, 48-Leads, Body 7.00x7.00mm, Pitch 0.50mm, Thermal Pad 5.60x5.60mm, IPC Medium Density)
pins: 1 DRGND, 2 DRVDD, 3 OVR_SDOUT, 4 CLKOUTM, 5 CLKOUTP, 6 DFS, 7 OE, 8 AVDD, 9 AGND, 10 CLKP, 11 CLKM, 12 AGND, 13 VCM, 14 AGND, 15 INP, 16 INM, 17 AGND, 18 AVDD, 19 AGND, 20 AVDD, 21 AVDD_BUF, 22 AVDD, 23 RSVD, 24 AVDD, 25 AGND, 26 AVDD, 27 SEN, 28 SDATA, 29 SCLK, 30 RESET, 31 NC, 32 NC, 33 D0_D1_M, 34 D0_D1_P, 35 DRVDD, 36 DRGND, 37 D2_D3_M, 38 D2_D3_P, 39 D4_D5_M, 40 D4_D5_P, 41 D6_D7_M, 42 D6_D7_P, 43 D8_D9_M, 44 D8_D9_P, 45 D10_D11_M, 46 D10_D11_P, 47 D12_D13_M, 48 D12_D13_P, 49 PAD
text: CLK GEN; SAMPLER; 14-BIT ADC; LOGIC; DDR SERIALIZER; REFERENCE; CTRL INTERFACE

## ADS41XX
designator U?, comment ADS4149IRGZT  Supplier Part Number 1: 296-27202-1-ND
IC ADC 14BIT 250MSPS LP 48VQFN; Manufacturer: Texas Instruments; Number of Bits: 14; Sampling Rate (Per Second): 250M; Number of Inputs: 1; Input Type: Differential; Data Interface: LVDS - Parallel, Parallel; Configuration: S/H-ADC; Ratio - S/H:ADC: 1:1; Architecture: Pipelined; Reference Type: Internal; Voltage - Supply, Analog: 1.7 V ~ 1.9 V; Supplier 1: Digi-Key; Manufacturer Part Number: ADS4149IRGZT; RoHS: RoHS Compliant; Category: Integrated Circuits (ICs); Stock 1: 438; Pricing 1: 1=102.46, 10=96.693, 100=87.728 (USD); Packaging: Cut Tape (CT); Number of A/D Converters: 1; Voltage - Supply, Digital: 1.7 V ~ 1.9 V; Features: -; Operating Temperature: -40°C ~ 85°C; Package / Case: 48-VFQFN Exposed Pad; Supplier Device Package: 48-VQFN (7x7); ComponentLink1URL: http://www.ti.com/lit/ds/symlink/ads4149.pdf; ComponentLink1Description: http://www.ti.com/lit/ds/symlink/ads4149.pdf
footprint QFN50P700X700X100_HS-49N (QFN, 48-Leads, Body 7.00x7.00mm, Pitch 0.50mm, Thermal Pad 5.60x5.60mm, IPC Medium Density)
pins: 1 DRGND, 2 DRVDD, 3 OVR/SDOUT, 4 CLKOUT_N, 5 CLKOUT_P, 6 DFS, 7 OE, 8 AVDD, 9 AGND, 10 CLK_P, 11 CLK_N, 12 AGND, 13 VCM, 14 AGND, 15 IN_P, 16 IN_N, 17 AGND, 18 AVDD, 19 AGND, 20 AVDD, 21 AVDD_BUF, 22 AVDD, 23 RESERVED, 24 AVDD, 25 AGND, 26 AVDD, 27 SEN, 28 SDATA, 29 SCLK, 30 RESET, 31 NC1, 32 NC2, 33 D0_N, 34 D0_P, 35 DRVDD, 36 DRGND, 37 D1_N, 38 D1_P, 39 D2_N, 40 D2_P, 41 D3_N, 42 D3_P, 43 D4_N, 44 D4_P, 45 D5_N, 46 D5_P, 47 D6_N, 48 D6_P, 49 DRGND

## ADS8332IBPWR
designator U?
16 Bit Analog to Digital Converter 8 Input 1 SAR 24-TSSOP; Manufacturer: Texas Instruments; Max Power Dissipation: 18.6mW; Interface: SPI; Number of Bits: 16; Sampling Rate: 500000S/s; Number of Inputs: 8; Number of A/D Converters: 1; Resolution: 16b; Polarity: Unipolar; Max Supply Voltage (DC): 5.5V; Min Supply Voltage (DC): 1.65V; Integral Nonlinearity (INL): 2LSB; Spurious-free dynamic range (SFDR): 103dB; Signal to Noise Ratio (SNR): 89dB; Power Consumption: 17.5mW; Min Supply Voltage: 2.7V; Power Dissipation: 39mW; Supplier 1: Digi-Key; Manufacturer Part Number: ADS8332IBPWR; Stock 1: 1526; Pricing 1: 1 = 11.42000, 10 = 10.49600, 100 = 8.86460, 500 = 7.88568, 1000 = 7.23307 (USD); RoHS: Yes; Case/Package: TSSOP; Number of Pins: 24; Contact Plating: Gold; Min Operating Temperature: -40°C; Max Operating Temperature: 85°C; Packaging: Tape and Reel; Package Quantity: 2000; Number of Converters: 1; Number of Analog Inputs: 8; Supply Type: Analog; Max Supply Voltage: 5.5V; Lead Free: Lead Free; ComponentLink1URL: https://datasheet.ciiva.com/14257/sbas363c-14257965.pdf?src-supplier=Avnet; ComponentLink1Description: https://datasheet.ciiva.com/14257/sbas363c-14257965.pdf?src-supplier=Avnet; Supplier Part Number 1: 296-42323-1-ND
footprint PW24_N (TSOP, 24-Leads, Body 7.8x4.4mm, Pitch 0.65mm, IPC Medium Density)
pins: 1 IN1, 2 IN2, 3 IN3, 4 IN4, 5 IN5, 6 IN6, 7 IN7, 8 ~{RESET}, 9 EOC/~{INT}/CDI, 10 SCLK, 11 FS/~{CS}, 12 SDI, 13 SDO, 14 DGND, 15 ~{CONVST}, 16 VBD, 17 VA, 18 REF+, 19 REF-, 20 AGND, 21 ADCIN, 22 MUXOUT, 23 COM, 24 IN0

## ADT7310
designator U?
SENSOR DIGITAL -55C-150C 8SOIC; Manufacturer: Analog Devices Inc; Manufacturer Part Number: ADT7310TRZ-REEL7; Function: Temp Monitoring System (Sensor); Sensor Type: Internal; Sensing Temperature: -55°C ~ 150°C; Accuracy: ±0.5°C; Topology: ADC (Sigma Delta), Oscillator, Register Bank; Output Type: SPI™; Output Alarm: No; Voltage - Supply: 2.7 V ~ 5.5 V; Supplier 1: Digi-Key; Supplier Part Number 1: ADT7310TRZ-REEL7CT-ND; RoHS: RoHS Compliant; Category: Integrated Circuits (ICs); Stock: 2553; Pricing: 1=3.63, 10=3.251, 25=2.9232, 100=2.6586, 250=2.4066, 500=2.1546 (USD); Packaging: Cut Tape (CT); Output Fan: No; Operating Temperature: -55°C ~ 150°C; Mounting Type: Surface Mount; Package / Case: 8-SOIC (0.154", 3.90mm Width); Supplier Device Package: 8-SOIC N; ComponentLink1URL: http://www.analog.com/static/imported-files/data_sheets/ADT7310.pdf; ComponentLink1Description: http://www.analog.com/static/imported-files/data_sheets/ADT7310.pdf
footprint SOIC127P600X175-8N (SOIC, 8-Leads, Body 4.90x3.90mm, Pitch 1.27mm, IPC Medium Density)
pins: 1 SCLK, 2 DOUT, 3 DIN, 4 ~{CS}, 5 INT, 6 CT, 7 GND, 8 VDD

## ADXL355BEZ-RL7
designator U?
Accelerometer X, Y, Z Axis ±2g, 4g, 8g 1.5kHz 14-CLCC (6x6); Manufacturer: Analog Devices; ComponentLink1Description: Datasheet; ComponentLink1URL: https://www.analog.com/media/en/technical-documentation/data-sheets/ADXL354_355.pdf; Supplier 1: Digi-Key; Manufacturer Part Number: ADXL355BEZ-RL7; Stock 1: 1191; Pricing 1: 1 = 53.40000, 10 = 50.16300, 100 = 44.98520 (USD); RoHS: No; Number of Pins: 14; Lead Free: Contains Lead; ComponentLink2URL: https://www.analog.com/media/en/technical-documentation/data-sheets/ADXL354_355.pdf?src-supplier=Digi-Key; ComponentLink2Description: https://www.analog.com/media/en/technical-documentation/data-sheets/ADXL354_355.pdf?src-supplier=Digi-Key; Supplier Part Number 1: ADXL355BEZ-RL7CT-ND
footprint E-14-1 (Footprint not found)
pins: 1 ~{CS}/SCL, 2 SCLK/VSSIO, 3 MOSI/SDA, 4 MISO/ASEL, 5 VDDIO, 6 VSSIO, 7 NC, 8 V1P8DIG, 9 VSS, 10 V1P8ANA, 11 VSUP, 12 INT1, 13 INT2, 14 DRDY

## Bead SM_805_2.5A_TDK
designator L?, comment Max Current Rating: 2.5A  (hidden comment: 2.5A_Bead_0805)
MPZ2012S331ATD25; Manufacturer: TDK; Number of Lines: 1; DC Resistance (DCR): 50mR; Impedance: 330R; Tolerance: 25%; Test Frequency: 100MHz; Supplier 1: Digi-Key; Manufacturer Part Number: MPZ2012S331ATD25; Stock 1: 19319; Pricing 1: 1=0.13000, 10=0.10400, 25=0.08080, 50=0.06700, 100=0.05780, 250=0.04620, 500=0.04158, 1000=0.03465 (USD); RoHS: Yes; Mount: Surface Mount; Case/Package: 0805; Weight: 0.000194oz; Case Code (Metric): 2012; Case Code (Imperial): 0805; Min Operating Temperature: -55°C; Max Operating Temperature: 125°C; Package Quantity: 4000; Packaging: Tape and Reel; Termination: SMD/SMT; Max DC Current: 2.5A; Length: 0.079inch; Height: 0.041inch; Width: 0.049inch; Ratings: AEC-Q200; Lead Free: Lead Free; ComponentLink1Description: Datasheet; ComponentLink1URL: https://product.tdk.com/info/en/catalog/datasheets/beads_automotive_power_mpz2012_en.pdf; Supplier Part Number 1: 445-172907-1-ND
footprint SMD-0805 (Chip Inductor, 2-Leads, Body 2.0x1.2x1.1 mm)
pins: 1, 2

## Bead SM_805_2.5A_TY
designator L?, comment value 2.5A  (hidden comment: 2.5A_Bead_0805)
BK2125HS101-T; Manufacturer: Taiyo Yuden; Manufacturer Part Number: BKP2125HS101-T; Impedance @ Frequency: 100 Ohm @ 100MHz; DC Resistance (DCR): 40 mOhm Max; Filter Type: Differential Mode - Single; Supplier 1: Digi-Key; RoHS: RoHS Compliant; Category: Filters; Stock 1: 3362; Pricing 1: 1=0.12, 10=0.094, 50=0.062, 100=0.0536, 250=0.04232, 500=0.03574, 1000=0.0301 (USD); Packaging: Cut Tape (CT); Current Rating: 2.5A; Package / Case: 0805 (2125 Metric); Mounting Type: Surface Mount; Height (Max): 0.041" (1.05mm); Size / Dimension: 0.079" L x 0.049" W (2.00mm x 1.25mm); ComponentLink1URL: http://www.yuden.co.jp/ut/product/category/emisuppression/BKP2125HS101-T.pdf; ComponentLink1Description: http://www.yuden.co.jp/ut/product/category/emisuppression/BKP2125HS101-T.pdf; Supplier Part Number 1: 587-1929-1-ND
footprint SMD-0805 (Chip Inductor, 2-Leads, Body 2.0x1.2x1.1 mm)
pins: 1, 2

## Bead SM_805_2.5A_Wurth
designator L?, comment 2.5A_Bead_0805  (value not drawn)
320 Ohm @ 100MHz; Manufacturer: Wurth Electronics Inc; Manufacturer Part Number: 74279220321; Current Rating: 2.5A; DC Resistance (DCR): 50 mOhm Max; Filter Type: Differential Mode - Single; Supplier 1: Digi-Key; RoHS: RoHS Compliant; Category: Filters; Stock 1: 3850; Pricing 1: 1=0.35, 50=0.3164, 100=0.2876, 250=0.26144, 500=0.23768 (USD); Packaging: Cut Tape (CT); Impedance @ Frequency: 320 Ohm @ 100MHz; Package / Case: 0805 (2012 Metric); Mounting Type: Surface Mount; Height (Max): 0.043" (1.10mm); Size / Dimension: 0.079" L x 0.047" W (2.00mm x 1.20mm); ComponentLink1URL: http://katalog.we-online.de/pbs/datasheet/74279220321.pdf; ComponentLink1Description: http://katalog.we-online.de/pbs/datasheet/74279220321.pdf; Supplier Part Number 1: 732-6125-1-ND
footprint SMD-0805 (Chip Inductor, 2-Leads, Body 2.0x1.2x1.1 mm)
footprint IND_0805 (Chip Inductor, Body 2.0x1.2mm, IPC Medium Density)
pins: 1, 2

## Bead SM_805_4.0A_TDK
designator L?, comment Max DC Current: 4A  (hidden comment: 4.0A_Bead_0805)
100 Ohms @ 100MHz 1 Power Line Ferrite Bead 0805 (2012 Metric) 4A 20mOhm; Manufacturer: TDK; Manufacturer Part Number: MPZ2012S101ATD25; Tolerance: 25%; Impedance: 100R; Number of Lines: 1; DC Resistance (DCR): 20mR; ComponentLink1Description: Datasheet; ComponentLink1URL: https://product.tdk.com/info/en/catalog/datasheets/beads_automotive_power_mpz2012_en.pdf; Supplier 1: Digi-Key; Stock 1: 173046; Pricing 1: 1=0.13000, 10=0.10400, 25=0.08080, 50=0.06700, 100=0.05780, 250=0.04620, 500=0.04158, 1000=0.03465 (USD); RoHS: Yes; Mount: Surface Mount; Case/Package: 0805; Weight: 0.000194oz; Core Material: Ferrite; Case Code (Metric): 2012; Case Code (Imperial): 0805; Min Operating Temperature: -55°C; Max Operating Temperature: 125°C; Packaging: Tape and Reel; Package Quantity: 4000; Max Current Rating: 4A; Termination: SMD/SMT; Test Frequency: 100MHz; Length: 0.079inch; Height: 0.85mm; Width: 1.25mm; Depth: 1.25mm; Ratings: AEC-Q200; Lead Free: Lead Free; Supplier Part Number 1: 445-172903-1-ND; ComponentLink2Description: MPZ Series; ComponentLink2URL: https://media.digikey.com/pdf/Data%20Sheets/TDK%20PDFs/MPZ_Series_Br.pdf; ComponentLink3Description: Supplier Link; ComponentLink3URL: https://www.digikey.com/products/en?keywords=445-172903-1-ND
footprint SMD-0805 (Chip Inductor, 2-Leads, Body 2.0x1.2x1.1 mm)
pins: 1, 2

## Bead SM_1206_3.5A
designator FB?, comment 120 Ohm @100MHz
FERRITE CHIP 120 OHM 3500MA 1206; Manufacturer: Murata Electronics North America; Manufacturer Part Number: BLM31PG121SN1L; DC Resistance (DCR): 20 mOhm Max; Filter Type: Differential Mode - Single; Current Rating: 3.5A; Supplier: Digi-Key; Category: Filters; Supplier Part Number: 490-1056-1-ND; RoHS: RoHS Compliant; Height (Max): 0.051" (1.30mm); Packaging: Cut Tape (CT); Impedance @ Frequency: 120 Ohm @ 100MHz; Mounting Type: Surface Mount; Package / Case: 1206 (3216 Metric); Size / Dimension: 0.126" L x 0.063" W (3.20mm x 1.60mm)
footprint 0805 (SMT; Body 2.0 x 1.2 mm (LxW typ))
footprint 1206 (Chip Capacitor; Body 3.2 x 1.6 mm (LxW typ))
pins: 1, 2

## Breakout-5
designator P?, comment Breakout
5-Position Molded Female Plug
pins: 1, 2, 3, 4, 5

## Cable Tie Slots
designator CT?, comment Cable Tie Slot  (value not drawn)  (no BOM)
Cable Anchor Point
footprint Cable Tie Slots

## Cap
designator C?  value 100pF  (hidden comment: Cap)
Capacitor; PackageReference: RAD-0.3; PackageDescription: Radial Cap, Thru-Hole; 2 Leads; 0.3 in Pin Spacing
footprint RAD-0.3 (Radial Cap, Thru-Hole; 2 Leads; 0.3 in Pin Spacing)
simulation model CAP (Capacitor)
signal-integrity model Cap
pins: 1, 2

## Cap Feedthru NFM31P
designator FBC?, comment FILT
NFM31PC276B0J3; Manufacturer: Murata Electronics North America; Manufacturer Part Number: NFM31PC276B0J3L; Capacitance: 27µF; Voltage: 6.3V; Current: 6A; DC Resistance (DCR): 5 mOhm Max; Supplier 1: Digi-Key; Supplier Part Number 1: 490-6984-1-ND; RoHS: RoHS Compliant; Category: Filters; Stock: 13862; Pricing: 1=1.06, 10=0.91, 50=0.6554, 100=0.5826, 250=0.54616, 500=0.50974, 1000=0.46787 (USD); Packaging: Cut Tape (CT); Operating Temperature: -40°C ~ 85°C; Package / Case: 1206 (3216 Metric), 3 PC Pad; Height (Max): 0.059" (1.50mm); Size / Dimension: 0.126" L x 0.063" W (3.20mm x 1.60mm); Thread Size: -; ComponentLink1URL: http://search.murata.co.jp/Ceramy/image/img/PDF/ENG/L0111S0111NFM31P.pdf; ComponentLink1Description: http://search.murata.co.jp/Ceramy/image/img/PDF/ENG/L0111S0111NFM31P.pdf
footprint Feedthru_1206
pins: 1, 2, 3

## Cap Feedthru NFM41P
designator FBC?, comment NFM41PC155B1E3L
CAP FEEDTHRU 1.5UF 25V 1806; Manufacturer: Murata; Max Current Rating: 6A; Tolerance: 20%; DC Resistance (DCR): 9mR; Insulation Resistance: 300MR; Supplier 1: Digi-Key; Manufacturer Part Number: NFM41PC155B1E3L; Stock 1: 102314; Pricing 1: 1 = 1.15000, 10 = 1.11200, 25 = 0.81560, 50 = 0.79700, 100 = 0.77850, 250 = 0.70432, 500 = 0.68580, 1000 = 0.59312 (USD); RoHS: Yes; Mount: Surface Mount; Case/Package: 1806; Case Code (Metric): 4516; Case Code (Imperial): 1806; Min Operating Temperature: -55°C; Max Operating Temperature: 85°C; Max Voltage Rating (DC): 25V; Capacitance: 1.5uF; Packaging: Tape and Reel; Voltage: 25V; Termination: Flat; Current Rating: 6A; Voltage Rating: 25V; Package Quantity: 4000; Voltage Rating (DC): 25V; Current: 6A; Length: 4.5mm; Height: 1mm; Width: 1.6mm; Depth: 1.6mm; Radiation Hardening: No; REACH SVHC: No SVHC; Lead Free: Lead Free; Supplier Part Number 1: 490-6986-1-ND; ComponentLink1Description: Datasheet; ComponentLink1URL: https://search.murata.co.jp/Ceramy/image/img/A01X/G101/ENG/NFM41PC155B1E3-01.pdf; ComponentLink2Description: Supplier Link; ComponentLink2URL: https://www.digikey.com/product-detail/en/murata-electronics-north-america/NFM41PC155B1E3L/490-6986-1-ND/3846183
footprint NFM41P
footprint NFM41P - NOVIA
pins: 1, 2, 3

## Cap Pol 22uF 25V Tant
designator C?  value 22uF  (hidden comment: Cap Pol 22uF 25V Tant)
Polarized Capacitor (Surface Mount); Voltage - Rated: 25V
simulation model CAP (Capacitor)
signal-integrity model Cap Pol
footprint TC7343-2917 (Capacitor, SM Tantalum; Body 7.3 x 4.3 mm (LxW typ))
pins: 1, 2
1 alternate drawing of the same symbol

## Cap Pol 33uF 16V Tant
designator C?  Capacitance: 33uF  (hidden comment: Cap Pol 33uF 16V Tant)
Polarized Capacitor (Surface Mount); Manufacturer: Panasonic; Manufacturer Part Number: 16TQC33MYFS; Tolerance: 20%; ESR (Equivalent Series Resistance): 40mR; Ripple Current: 1.8A; Leakage Current: 52.8uA; Polarity: Polar; Life (Hours): 2000Hour; Dissipation Factor: 10%; ComponentLink1URL: http://www.kemet.com/docfinder?Partnumber=T520; ComponentLink1Description: Data Sheet; Supplier 1: Digi-Key; Stock 1: 5972; Pricing 1: 1=1.94000, 10=1.57200, 100=1.20030, 500=0.91448, 1000=0.82875 (USD); RoHS: Yes; Mount: Surface Mount; Case/Package: 2917; Number of Pins: 12; Case Code (Metric): 7343; Case Code (Imperial): 2917; Min Operating Temperature: -55°C; Max Operating Temperature: 105°C; Voltage Rating: 16V; Packaging: Tape and Reel; Package Quantity: 2000; Voltage Rating (DC): 16V; Termination: SMD/SMT; Voltage: 16V; Features: General Purpose; Length: 7.3mm; Height: 1.15mm; Width: 0.169inch; Height - Seated (Max): 0.049inch; Depth: 4.3mm; Radiation Hardening: No; REACH SVHC: No SVHC; Lead Free: Lead Free; ComponentLink2URL: https://datasheet.ciiva.com/48675/aaa8000ce14-48675002.pdf?src-supplier=Avnet; ComponentLink2Description: https://datasheet.ciiva.com/48675/aaa8000ce14-48675002.pdf?src-supplier=Avnet; ComponentLink3URL: https://datasheet.ciiva.com/25784/1734368-25784940.pdf?src-supplier=Farnell; ComponentLink3Description: https://datasheet.ciiva.com/25784/1734368-25784940.pdf?src-supplier=Farnell; Supplier Part Number 1: P123507CT-ND
simulation model CAP (Capacitor)
signal-integrity model Cap Pol
footprint TC7343-2917 (Capacitor, SM Tantalum; Body 7.3 x 4.3 mm (LxW typ))
pins: 1, 2
1 alternate drawing of the same symbol